# Altium footprint library Luxeon.PcbLib: 1 footprints
Each footprint in its own frame and in the unit in brackets; x right, y up, seen from the top. Pads: shape width x height; smd on the part's side, far side on the other; paste and mask are expansions set on the pad; w line width, h text height; cw(c..) or ccw(c..) is an arc to the next point about the centre after c.
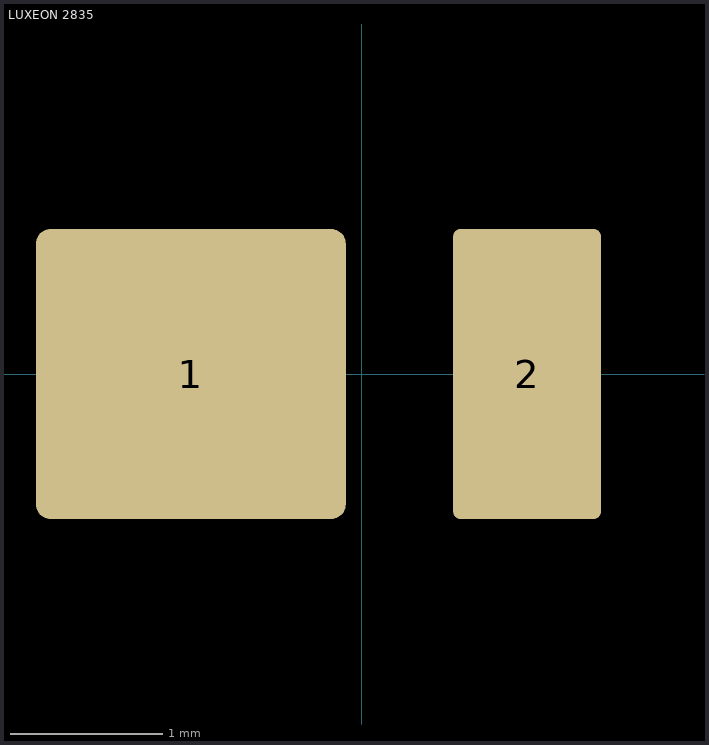
[diagram p0: the footprint, top view; thin cyan lines are the x and y axes]

## LUXEON 2835 [mm]
pads (2):
  rrect10% 2.03x1.9 smd: 1(-1.118,0)
  rrect10% 0.97x1.9 smd: 2(1.084,0)